# Altium footprint library SC-70-6L.PcbLib: 1 footprints
Each footprint in its own frame and in the unit in brackets; x right, y up, seen from the top. Pads: shape width x height; smd on the part's side, far side on the other; paste and mask are expansions set on the pad; w line width, h text height; cw(c..) or ccw(c..) is an arc to the next point about the centre after c.
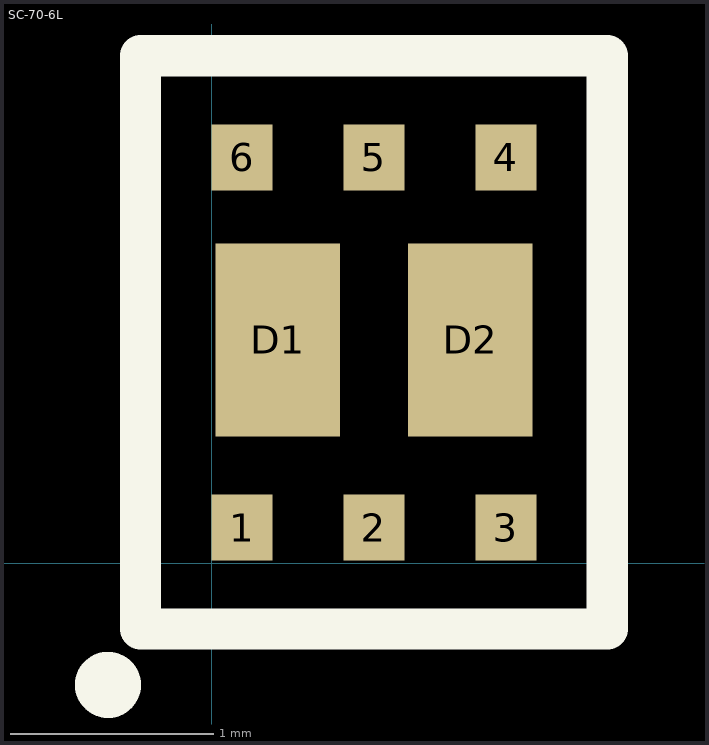
[diagram p0: the footprint, top view; thin cyan lines are the x and y axes]

## SC-70-6L [mm]
pads (8):
  rect 0.3x0.325 smd: 1(0.15,0.175) 2(0.8,0.175) 3(1.45,0.175) 4(1.45,2) 5(0.8,2) 6(0.15,2)
  rect 0.613x0.95 smd: D1(0.325,1.1) D2(1.275,1.1)
TopOverlay:
  circle w0.254: c-0.511,-0.6 r0.036
  lines w0.203: -0.35,-0.325 -0.35,2.5 1.95,2.5 1.95,-0.325 -0.35,-0.325
Mechanical4:
  text ".040" at 0,0 h0.03
3D body: height 0.75, standoff -0.01, extent -0.234,0.059 1.816,2.111